# EAGLE library part S1G6_JUMP (library #PaJa_konektory)
Radove konektory - koliky - 6x
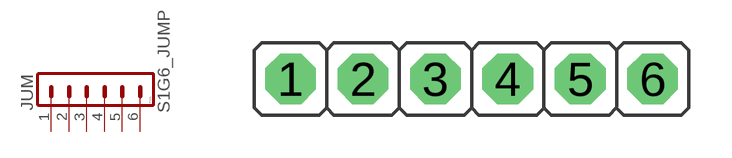
[diagram p19: symbol with the pads of S1G6_JUM; footprint S1G6_JUM]

Designator prefix JUM

## S1G6_JUMP  [S1G6_JUM]
1  1  pas
2  2  pas
3  3  pas
4  4  pas
5  5  pas
6  6  pas

## Footprint S1G6_JUM (pad centres in mm)
drill 1.016 pad 1.778 octagon: 1 -6.35,0; 2 -3.81,0; 3 -1.27,0; 4 1.27,0; 5 3.81,0; 6 6.35,0